# Altium schematic symbol library Isolator.SchLib: 324 symbols (part 2 of 4)
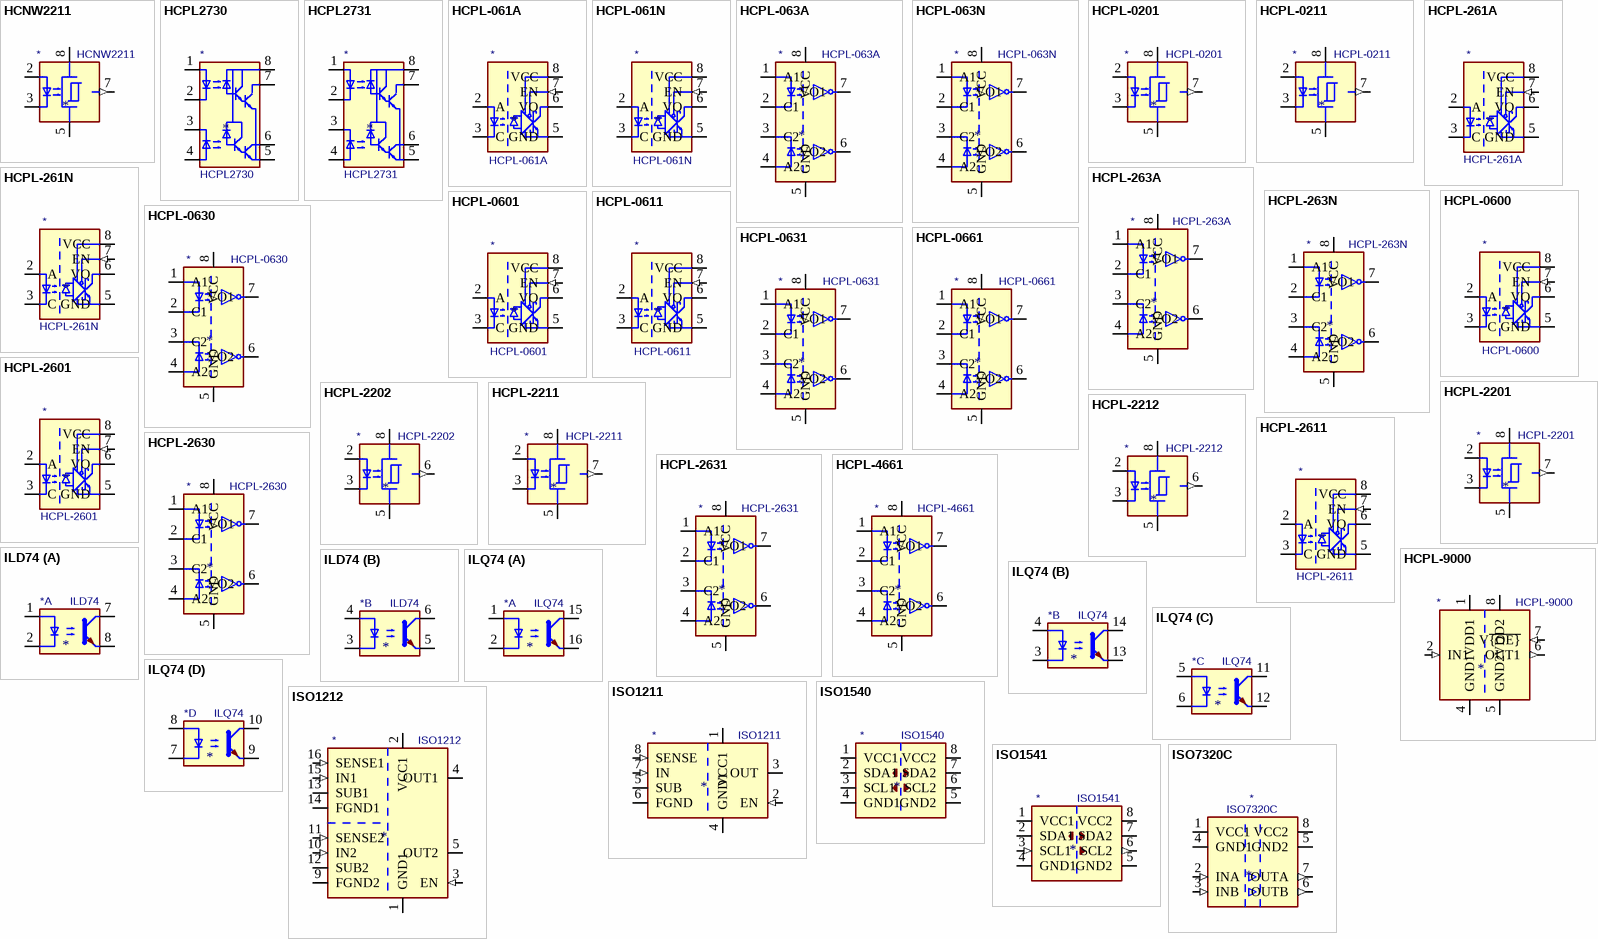
[diagram p10: symbols HCNW2211 to ISO7320C]

## HCPL-0631
designator *  value HCPL-0631
ki_keywords: High speed optically coupled gates; ki_description: Dual High Speed LSTTL/TTL Compatible Optocoupler, dV/dt 10000/us, VCM 1000, max 7V VCC, SOIC-8; ki_fp_filters: SOIC*3.9x4.9mm?P1.27mm*; Footprint: Package_SO:SOIC-8_3.9x4.9mm_P1.27mm; Supplier: https://docs.broadcom.com/docs/AV02-0940EN
footprint SOIC-8_3.9x4.9mm_P1.27mm
pins: 1 A1, 2 C1, 3 C2, 4 A2, 5 GND (power), 6 VO2 (oc), 7 VO1 (oc), 8 VCC (power)

## HCPL-0661
designator *  value HCPL-0661
ki_keywords: High speed optically coupled gates; ki_description: Dual High Speed LSTTL/TTL Compatible Optocoupler, dV/dt 15000/us, VCM 1000, max 7V VCC, SOIC-8; ki_fp_filters: SOIC*3.9x4.9mm?P1.27mm*; Footprint: Package_SO:SOIC-8_3.9x4.9mm_P1.27mm; Supplier: https://docs.broadcom.com/docs/AV02-0940EN
footprint SOIC-8_3.9x4.9mm_P1.27mm
pins: 1 A1, 2 C1, 3 C2, 4 A2, 5 GND (power), 6 VO2 (oc), 7 VO1 (oc), 8 VCC (power)

## HCPL-2201
designator *  value HCPL-2201
ki_keywords: opto coupler schmitt output; ki_description: Opto Coupler, 1kV/us, 50V CMR, Schmitt trigger output, DIP-8; ki_fp_filters: DIP*W7.62mm*; Footprint: Package_DIP:DIP-8_W7.62mm; Supplier: https://docs.broadcom.com/docs/AV02-0674EN
footprint DIP-8_W7.62mm
pins: 1 (in) hidden, 2, 3, 4 (in) hidden, 5 (power), 6 (in) hidden, 7 (out), 8 (power)

## HCPL-2202
designator *  value HCPL-2202
ki_keywords: opto coupler schmitt output; ki_description: Opto Coupler, 1kV/us, 50V CMR, Schmitt trigger output, DIP-8; ki_fp_filters: DIP*W7.62mm*; Footprint: Package_DIP:DIP-8_W7.62mm; Supplier: https://docs.broadcom.com/docs/AV02-0674EN
footprint DIP-8_W7.62mm
pins: 1 (in) hidden, 2, 3, 4 (in) hidden, 5 (power), 6 (out), 7 (in) hidden, 8 (power)

## HCPL-2211
designator *  value HCPL-2211
ki_keywords: opto coupler schmitt output; ki_description: Opto Coupler, 5kV/us, 300V CMR, Schmitt trigger output, DIP-8; ki_fp_filters: DIP*W7.62mm*; Footprint: Package_DIP:DIP-8_W7.62mm; Supplier: https://docs.broadcom.com/docs/AV02-0674EN
footprint DIP-8_W7.62mm
pins: 1 (in) hidden, 2, 3, 4 (in) hidden, 5 (power), 6 (in) hidden, 7 (out), 8 (power)

## HCPL-2212
designator *  value HCPL-2212
ki_keywords: opto coupler schmitt output; ki_description: Opto Coupler, 5kV/us, 300V CMR, Schmitt trigger output, DIP-8; ki_fp_filters: DIP*W7.62mm*; Footprint: Package_DIP:DIP-8_W7.62mm; Supplier: https://docs.broadcom.com/docs/AV02-0674EN
footprint DIP-8_W7.62mm
pins: 1 (in) hidden, 2, 3, 4 (in) hidden, 5 (power), 6 (out), 7 (in) hidden, 8 (power)

## HCPL-2601
designator *  value HCPL-2601
ki_keywords: High speed optically coupled gates enable; ki_description: Single High Speed LSTTL/TTL Compatible Optocoupler with enable, dV/dt 10000/us, VCM 1000, max 7V VCC, DIP-8; ki_fp_filters: DIP*W7.62mm*; Footprint: Package_DIP:DIP-8_W7.62mm; Supplier: https://docs.broadcom.com/docs/AV02-0940EN
footprint DIP-8_W7.62mm
pins: 1 NC (in) hidden, 2 A, 3 C, 5 GND (power), 6 VO (oc), 7 EN (in), 8 VCC (power)

## HCPL-2611
designator *  value HCPL-2611
ki_keywords: High speed optically coupled gates enable; ki_description: Single High Speed LSTTL/TTL Compatible Optocoupler with enable, dV/dt 15000/us, VCM 1000, max 7V VCC, DIP-8; ki_fp_filters: DIP*W7.62mm*; Footprint: Package_DIP:DIP-8_W7.62mm; Supplier: https://docs.broadcom.com/docs/AV02-0940EN
footprint DIP-8_W7.62mm
pins: 1 NC (in) hidden, 2 A, 3 C, 5 GND (power), 6 VO (oc), 7 EN (in), 8 VCC (power)

## HCPL-2630
designator *  value HCPL-2630
ki_keywords: High speed optically coupled gates; ki_description: Dual High Speed LSTTL/TTL Compatible Optocoupler, dV/dt 5000/us, VCM 1000, max 7V VCC, DIP-8; ki_fp_filters: DIP*W7.62mm*; Footprint: Package_DIP:DIP-8_W7.62mm; Supplier: https://docs.broadcom.com/docs/AV02-0940EN
footprint DIP-8_W7.62mm
pins: 1 A1, 2 C1, 3 C2, 4 A2, 5 GND (power), 6 VO2 (oc), 7 VO1 (oc), 8 VCC (power)

## HCPL-2631
designator *  value HCPL-2631
ki_keywords: High speed optically coupled gates; ki_description: Dual High Speed LSTTL/TTL Compatible Optocoupler, dV/dt 10000/us, VCM 1000, max 7V VCC, DIP-8; ki_fp_filters: DIP*W7.62mm*; Footprint: Package_DIP:DIP-8_W7.62mm; Supplier: https://docs.broadcom.com/docs/AV02-0940EN
footprint DIP-8_W7.62mm
pins: 1 A1, 2 C1, 3 C2, 4 A2, 5 GND (power), 6 VO2 (oc), 7 VO1 (oc), 8 VCC (power)

## HCPL-4661
designator *  value HCPL-4661
ki_keywords: High speed optically coupled gates; ki_description: Dual High Speed LSTTL/TTL Compatible Optocoupler, dV/dt 15000/us, VCM 1000, max 7V VCC, DIP-8; ki_fp_filters: DIP*W7.62mm*; Footprint: Package_DIP:DIP-8_W7.62mm; Supplier: https://docs.broadcom.com/docs/AV02-0940EN
footprint DIP-8_W7.62mm
pins: 1 A1, 2 C1, 3 C2, 4 A2, 5 GND (power), 6 VO2 (oc), 7 VO1 (oc), 8 VCC (power)

## HCPL-9000
designator *  value HCPL-9000
ki_keywords: digital isolator, high speed; ki_description: High Speed Digital Isolator, CMOS, excellent transient immunity, active-low logic output enable, DIP-8; ki_fp_filters: DIP*W7.62mm*; Footprint: Package_DIP:DIP-8_W7.62mm; Supplier: https://docs.broadcom.com/docs/AV02-0137EN
footprint DIP-8_W7.62mm
pins: 1 VDD1 (power), 2 IN1 (in), 3 NC (in) hidden, 4 GND1 (power), 5 GND2 (power), 6 OUT1 (out), 7 V~{{OE}} (in), 8 VDD2 (power)

## ILD74
designator *  value ILD74
ki_keywords: NPN DC Dual Optocoupler; ki_description: Dual Optocoupler, NPN Phototransistor Output, TTL compatible, DIP8/SMD8; ki_fp_filters: DIP*W7.62mm* DIP*W10.16mm* SMDIP*W9.53mm*Clearance8mm*; Supplier: https://www.vishay.com/docs/83640/ild74.pdf
part A pins: 1, 2, 7, 8
part B pins: 3, 4, 5, 6

## ILQ74
designator *  value ILQ74
ki_keywords: NPN DC Dual Optocoupler; ki_description: Quad Optocoupler, NPN Phototransistor Output, TTL compatible, DIP16/SMD16; ki_fp_filters: DIP*W7.62mm* DIP*W10.16mm* SMDIP*W9.53mm*Clearance8mm*; Supplier: https://www.vishay.com/docs/83640/ild74.pdf
part A pins: 1, 2, 15, 16
part B pins: 3, 4, 13, 14
part C pins: 5, 6, 11, 12
part D pins: 7, 8, 9, 10

## ISO1211
designator *  value ISO1211
ki_keywords: isolated digital input; ki_description: Isolated, 1 Channel, 24 to 60V Digital Input Receiver, SOIC-8; ki_fp_filters: SOIC*3.9x4.9mm*P1.27mm*; Footprint: Package_SO:SOIC-8_3.9x4.9mm_P1.27mm; Supplier: http://www.ti.com/lit/ds/symlink/iso1211.pdf
footprint SOIC-8_3.9x4.9mm_P1.27mm
pins: 1 VCC1 (power), 2 EN (in), 3 OUT (hiz), 4 GND1 (power), 5 SUB, 6 FGND (power), 7 IN (in), 8 SENSE (in)

## ISO1212
designator *  value ISO1212
ki_keywords: isolated digital input; ki_description: Isolated, 2 Channels, 24 to 60V Digital Inputs Receiver, SSOP-16; ki_fp_filters: SSOP*3.9x4.9mm*P0.635mm*; Footprint: Package_SO:SSOP-16_3.9x4.9mm_P0.635mm; Supplier: http://www.ti.com/lit/ds/symlink/iso1212.pdf
footprint SSOP-16_3.9x4.9mm_P0.635mm
pins: 1 GND1 (power), 2 VCC1 (power), 3 EN (in), 4 OUT1 (hiz), 5 OUT2 (hiz), 6 NC (in) hidden, 7 NC (in) hidden, 8 GND1 hidden, 9 FGND2 (power), 10 IN2 (in), 11 SENSE2 (in), 12 SUB2, 13 SUB1, 14 FGND1 (power), 15 IN1 (in), 16 SENSE1 (in)

## ISO1540
designator *  value ISO1540
ki_keywords: digital isolator i2c; ki_description: I2C Isolator, 2.5 kVrms, Bidirectional clock and data, SOIC-8; ki_fp_filters: SOIC*3.9x4.9mm*P1.27mm*; Footprint: Package_SO:SOIC-8_3.9x4.9mm_P1.27mm; Supplier: http://www.ti.com/lit/ds/symlink/iso1541.pdf
footprint SOIC-8_3.9x4.9mm_P1.27mm
pins: 1 VCC1 (power), 2 SDA1 (io), 3 SCL1 (io), 4 GND1 (power), 5 GND2 (power), 6 SCL2 (io), 7 SDA2 (io), 8 VCC2 (power)

## ISO1541
designator *  value ISO1541
ki_keywords: digital isolator i2c; ki_description: I2C Isolator, 2.5 kVrms, Unidirectional Clock, Bidirectional data, SOIC-8; ki_fp_filters: SOIC*3.9x4.9mm*P1.27mm*; Footprint: Package_SO:SOIC-8_3.9x4.9mm_P1.27mm; Supplier: http://www.ti.com/lit/ds/symlink/iso1541.pdf
footprint SOIC-8_3.9x4.9mm_P1.27mm
pins: 1 VCC1 (power), 2 SDA1 (io), 3 SCL1 (in), 4 GND1 (power), 5 GND2 (power), 6 SCL2 (out), 7 SDA2 (io), 8 VCC2 (power)

## ISO7320C
designator *  value ISO7320C
ki_keywords: 2Ch Dual Digital Isolator 25Mbps; ki_description: Low Power Dual-Channel 2/0 Digital Isolator, 25Mbps 33ns, Fail-Safe High, SO8; ki_fp_filters: SO*; Footprint: Package_SO:SOIC-8_3.9x4.9mm_P1.27mm; Supplier: http://www.ti.com/general/docs/lit/getliterature.tsp?genericPartNumber=iso7320c&fileType=pdf
footprint SOIC-8_3.9x4.9mm_P1.27mm
pins: 1 VCC1 (power), 2 INA (in), 3 INB (in), 4 GND1 (power), 5 GND2 (power), 6 OUTB (out), 7 OUTA (out), 8 VCC2 (power)

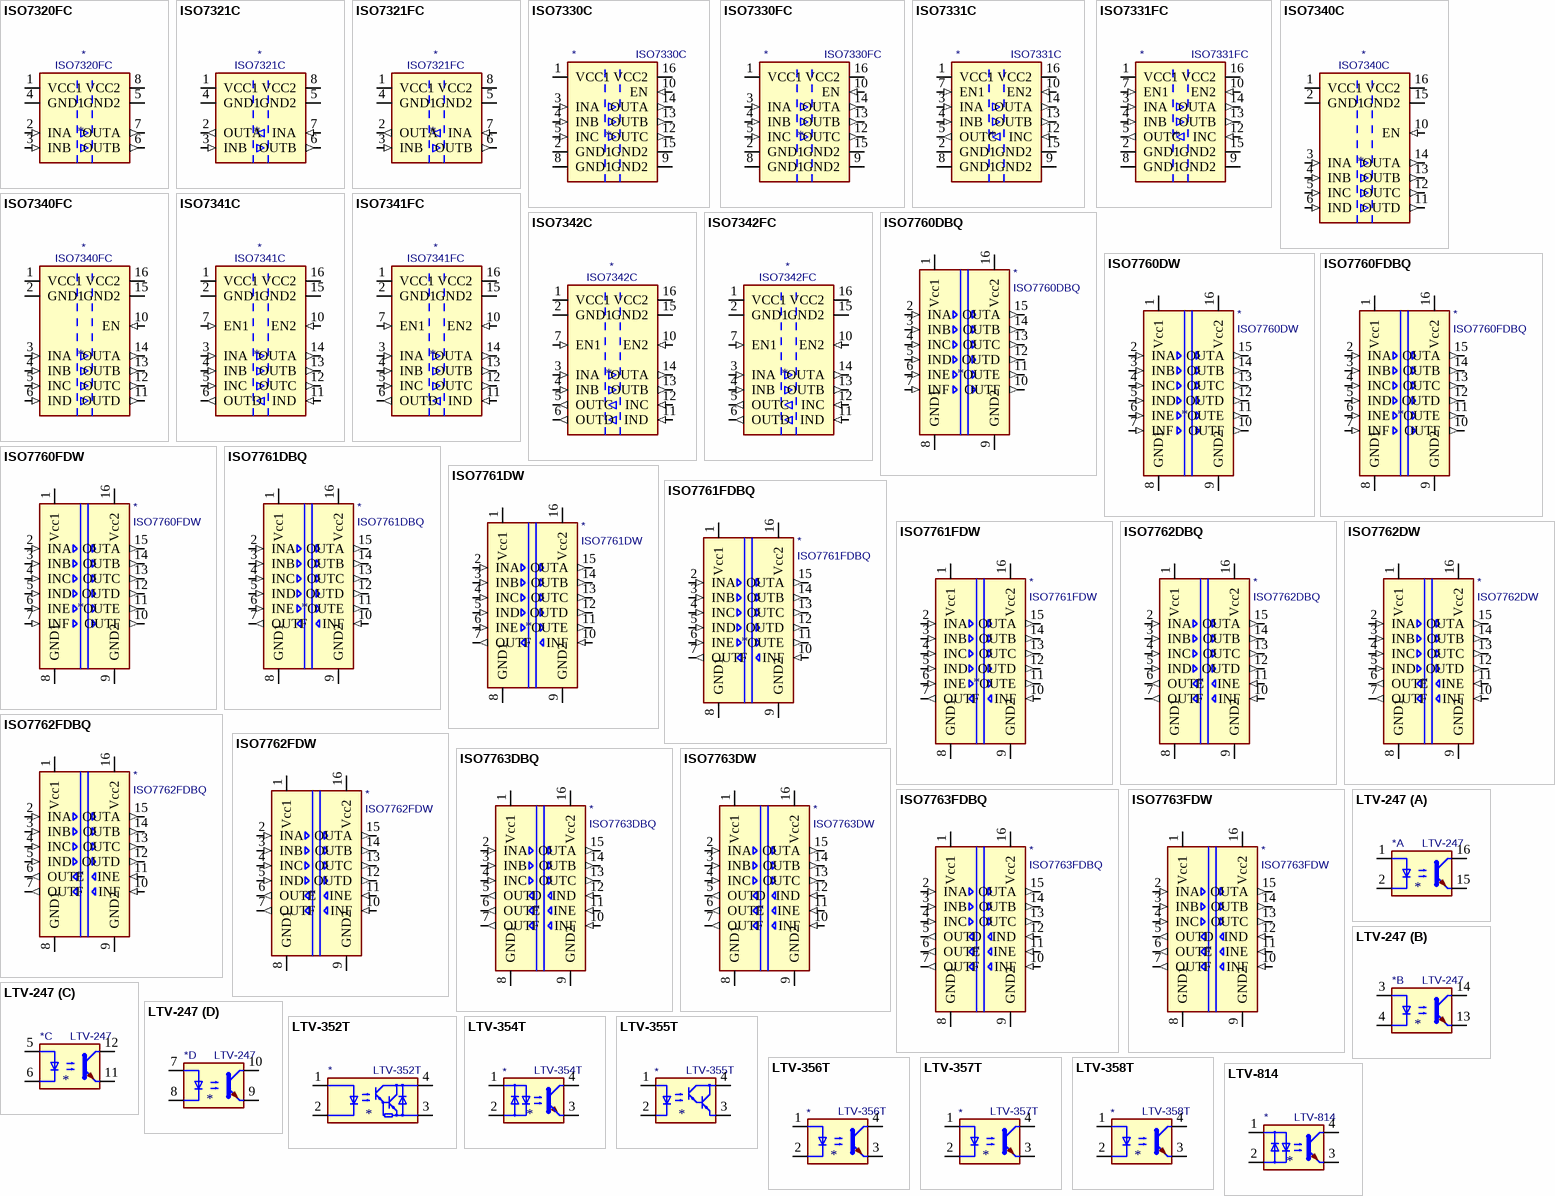
[diagram p3: symbols ISO7320FC to LTV-814]

## ISO7320FC
designator *  value ISO7320FC
ki_keywords: 2Ch Dual Digital Isolator 25Mbps; ki_description: Low Power Dual-Channel 2/0 Digital Isolator, 25Mbps 33ns, Fail-Safe Low, SO8; ki_fp_filters: SO*; Footprint: Package_SO:SOIC-8_3.9x4.9mm_P1.27mm; Supplier: http://www.ti.com/general/docs/lit/getliterature.tsp?genericPartNumber=iso7320fc&fileType=pdf
footprint SOIC-8_3.9x4.9mm_P1.27mm
pins: 1 VCC1 (power), 2 INA (in), 3 INB (in), 4 GND1 (power), 5 GND2 (power), 6 OUTB (out), 7 OUTA (out), 8 VCC2 (power)

## ISO7321C
designator *  value ISO7321C
ki_keywords: 2Ch Dual Digital Isolator 25Mbps; ki_description: Low Power Dual-Channel 1/1 Digital Isolator, 25Mbps 33ns, Fail-Safe High, SO8; ki_fp_filters: SO*; Footprint: Package_SO:SOIC-8_3.9x4.9mm_P1.27mm; Supplier: http://www.ti.com/general/docs/lit/getliterature.tsp?genericPartNumber=iso7321c&fileType=pdf
footprint SOIC-8_3.9x4.9mm_P1.27mm
pins: 1 VCC1 (power), 2 OUTA (out), 3 INB (in), 4 GND1 (power), 5 GND2 (power), 6 OUTB (out), 7 INA (in), 8 VCC2 (power)

## ISO7321FC
designator *  value ISO7321FC
ki_keywords: 2Ch Dual Digital Isolator 25Mbps; ki_description: Low Power Dual-Channel 1/1 Digital Isolator, 25Mbps 33ns, Fail-Safe Low, SO8; ki_fp_filters: SO*; Footprint: Package_SO:SOIC-8_3.9x4.9mm_P1.27mm; Supplier: http://www.ti.com/general/docs/lit/getliterature.tsp?genericPartNumber=iso7321fc&fileType=pdf
footprint SOIC-8_3.9x4.9mm_P1.27mm
pins: 1 VCC1 (power), 2 OUTA (out), 3 INB (in), 4 GND1 (power), 5 GND2 (power), 6 OUTB (out), 7 INA (in), 8 VCC2 (power)

## ISO7330C
designator *  value ISO7330C
ki_keywords: 3Ch Quad Digital Isolator 25Mbps; ki_description: Low Power Quad-Channel 3/0 Digital Isolator, 25Mbps 31ns, Fail-Safe High, SO16; ki_fp_filters: SOIC*7.5x10.3mm*P1.27mm*; Footprint: Package_SO:SOIC-16W_7.5x10.3mm_P1.27mm; Supplier: http://www.ti.com/lit/ds/symlink/iso7330-q1.pdf
footprint SOIC-16W_7.5x10.3mm_P1.27mm
pins: 1 VCC1 (power), 2 GND1 (power), 3 INA (in), 4 INB (in), 5 INC (in), 6 NC (in) hidden, 7 NC (in) hidden, 8 GND1 (power), 9 GND2 (power), 10 EN (in), 11 NC (in) hidden, 12 OUTC (out), 13 OUTB (out), 14 OUTA (out), 15 GND2 (power), 16 VCC2 (power)

## ISO7330FC
designator *  value ISO7330FC
ki_keywords: 3Ch Quad Digital Isolator 25Mbps; ki_description: Low Power Quad-Channel 3/0 Digital Isolator, 25Mbps 31ns, Fail-Safe Low, SO16; ki_fp_filters: SOIC*7.5x10.3mm*P1.27mm*; Footprint: Package_SO:SOIC-16W_7.5x10.3mm_P1.27mm; Supplier: http://www.ti.com/lit/ds/symlink/iso7330-q1.pdf
footprint SOIC-16W_7.5x10.3mm_P1.27mm
pins: 1 VCC1 (power), 2 GND1 (power), 3 INA (in), 4 INB (in), 5 INC (in), 6 NC (in) hidden, 7 NC (in) hidden, 8 GND1 (power), 9 GND2 (power), 10 EN (in), 11 NC (in) hidden, 12 OUTC (out), 13 OUTB (out), 14 OUTA (out), 15 GND2 (power), 16 VCC2 (power)

## ISO7331C
designator *  value ISO7331C
ki_keywords: 3Ch Quad Digital Isolator 25Mbps; ki_description: Low Power Quad-Channel 2/1 Digital Isolator, 25Mbps 31ns, Fail-Safe High, SO16; ki_fp_filters: SOIC*7.5x10.3mm*P1.27mm*; Footprint: Package_SO:SOIC-16W_7.5x10.3mm_P1.27mm; Supplier: http://www.ti.com/lit/ds/symlink/iso7331c.pdf
footprint SOIC-16W_7.5x10.3mm_P1.27mm
pins: 1 VCC1 (power), 2 GND1 (power), 3 INA (in), 4 INB (in), 5 OUTC (out), 6 NC (in) hidden, 7 EN1 (in), 8 GND1 (power), 9 GND2 (power), 10 EN2 (in), 11 NC (in) hidden, 12 INC (in), 13 OUTB (out), 14 OUTA (out), 15 GND2 (power), 16 VCC2 (power)

## ISO7331FC
designator *  value ISO7331FC
ki_keywords: 3Ch Quad Digital Isolator 25Mbps; ki_description: Low Power Quad-Channel 2/1 Digital Isolator, 25Mbps 31ns, Fail-Safe Low, SO16; ki_fp_filters: SOIC*7.5x10.3mm*P1.27mm*; Footprint: Package_SO:SOIC-16W_7.5x10.3mm_P1.27mm; Supplier: http://www.ti.com/general/docs/lit/getliterature.tsp?genericPartNumber=iso7341c&fileType=pdf
footprint SOIC-16W_7.5x10.3mm_P1.27mm
pins: 1 VCC1 (power), 2 GND1 (power), 3 INA (in), 4 INB (in), 5 OUTC (out), 6 NC (in) hidden, 7 EN1 (in), 8 GND1 (power), 9 GND2 (power), 10 EN2 (in), 11 NC (in) hidden, 12 INC (in), 13 OUTB (out), 14 OUTA (out), 15 GND2 (power), 16 VCC2 (power)

## ISO7340C
designator *  value ISO7340C
ki_keywords: 4Ch Quad Digital Isolator 25Mbps; ki_description: Low Power Quad-Channel 4/0 Digital Isolator, 25Mbps 31ns, Fail-Safe High, SO16; ki_fp_filters: SO*; Footprint: Package_SO:SOIC-16W_7.5x10.3mm_P1.27mm; Supplier: http://www.ti.com/general/docs/lit/getliterature.tsp?genericPartNumber=iso7340c&fileType=pdf
footprint SOIC-16W_7.5x10.3mm_P1.27mm
pins: 1 VCC1 (power), 2 GND1 (power), 3 INA (in), 4 INB (in), 5 INC (in), 6 IND (in), 8 GND1 hidden, 9 GND2 hidden, 10 EN (in), 11 OUTD (out), 12 OUTC (out), 13 OUTB (out), 14 OUTA (out), 15 GND2 (power), 16 VCC2 (power)

## ISO7340FC
designator *  value ISO7340FC
ki_keywords: 4Ch Quad Digital Isolator 25Mbps; ki_description: Low Power Quad-Channel 4/0 Digital Isolator, 25Mbps 31ns, Fail-Safe Low, SO16; ki_fp_filters: SO*; Footprint: Package_SO:SOIC-16W_7.5x10.3mm_P1.27mm; Supplier: http://www.ti.com/general/docs/lit/getliterature.tsp?genericPartNumber=iso7340fc&fileType=pdf
footprint SOIC-16W_7.5x10.3mm_P1.27mm
pins: 1 VCC1 (power), 2 GND1 (power), 3 INA (in), 4 INB (in), 5 INC (in), 6 IND (in), 8 GND1 hidden, 9 GND2 hidden, 10 EN (in), 11 OUTD (out), 12 OUTC (out), 13 OUTB (out), 14 OUTA (out), 15 GND2 (power), 16 VCC2 (power)

## ISO7341C
designator *  value ISO7341C
ki_keywords: 4Ch Quad Digital Isolator 25Mbps; ki_description: Low Power Quad-Channel 3/1 Digital Isolator, 25Mbps 31ns, Fail-Safe High, SO16; ki_fp_filters: SO*; Footprint: Package_SO:SOIC-16W_7.5x10.3mm_P1.27mm; Supplier: http://www.ti.com/general/docs/lit/getliterature.tsp?genericPartNumber=iso7341c&fileType=pdf
footprint SOIC-16W_7.5x10.3mm_P1.27mm
pins: 1 VCC1 (power), 2 GND1 (power), 3 INA (in), 4 INB (in), 5 INC (in), 6 OUTD (out), 7 EN1 (in), 8 GND1 hidden, 9 GND2 hidden, 10 EN2 (in), 11 IND (in), 12 OUTC (out), 13 OUTB (out), 14 OUTA (out), 15 GND2 (power), 16 VCC2 (power)

## ISO7341FC
designator *  value ISO7341FC
ki_keywords: 4Ch Quad Digital Isolator 25Mbps; ki_description: Low Power Quad-Channel 3/1 Digital Isolator, 25Mbps 31ns, Fail-Safe Low, SO16; ki_fp_filters: SO*; Footprint: Package_SO:SOIC-16W_7.5x10.3mm_P1.27mm; Supplier: http://www.ti.com/general/docs/lit/getliterature.tsp?genericPartNumber=iso7341fc&fileType=pdf
footprint SOIC-16W_7.5x10.3mm_P1.27mm
pins: 1 VCC1 (power), 2 GND1 (power), 3 INA (in), 4 INB (in), 5 INC (in), 6 OUTD (out), 7 EN1 (in), 8 GND1 hidden, 9 GND2 hidden, 10 EN2 (in), 11 IND (in), 12 OUTC (out), 13 OUTB (out), 14 OUTA (out), 15 GND2 (power), 16 VCC2 (power)

## ISO7342C
designator *  value ISO7342C
ki_keywords: 4Ch Quad Digital Isolator 25Mbps; ki_description: Low Power Quad-Channel 2/2 Digital Isolator, 25Mbps 31ns, Fail-Safe High, SO16; ki_fp_filters: SO*; Footprint: Package_SO:SOIC-16W_7.5x10.3mm_P1.27mm; Supplier: http://www.ti.com/general/docs/lit/getliterature.tsp?genericPartNumber=iso7342c&fileType=pdf
footprint SOIC-16W_7.5x10.3mm_P1.27mm
pins: 1 VCC1 (power), 2 GND1 (power), 3 INA (in), 4 INB (in), 5 OUTC (out), 6 OUTD (out), 7 EN1 (in), 8 GND1 hidden, 9 GND2 hidden, 10 EN2 (in), 11 IND (in), 12 INC (in), 13 OUTB (out), 14 OUTA (out), 15 GND2 (power), 16 VCC2 (power)

## ISO7342FC
designator *  value ISO7342FC
ki_keywords: 4Ch Quad Digital Isolator 25Mbps; ki_description: Low Power Quad-Channel 2/2 Digital Isolator, 25Mbps 31ns, Fail-Safe Low, SO16; ki_fp_filters: SO*; Footprint: Package_SO:SOIC-16W_7.5x10.3mm_P1.27mm; Supplier: http://www.ti.com/general/docs/lit/getliterature.tsp?genericPartNumber=iso7342fc&fileType=pdf
footprint SOIC-16W_7.5x10.3mm_P1.27mm
pins: 1 VCC1 (power), 2 GND1 (power), 3 INA (in), 4 INB (in), 5 OUTC (out), 6 OUTD (out), 7 EN1 (in), 8 GND1 hidden, 9 GND2 hidden, 10 EN2 (in), 11 IND (in), 12 INC (in), 13 OUTB (out), 14 OUTA (out), 15 GND2 (power), 16 VCC2 (power)

## ISO7760DBQ
designator *  value ISO7760DBQ
ki_keywords: 6 channel digital isolator; ki_description: Default high, High-speed, robust EMC, reinforced, six-channel, digital, isolator, SSOP-16; ki_fp_filters: SSOP*3.9x4.9mm*P0.635mm*; Footprint: Package_SO:SSOP-16_3.9x4.9mm_P0.635mm; Supplier: https://www.ti.com/lit/ds/symlink/iso7763.pdf
footprint SSOP-16_3.9x4.9mm_P0.635mm
pins: 1 Vcc1 (power), 2 INA (in), 3 INB (in), 4 INC (in), 5 IND (in), 6 INE (in), 7 INF (in), 8 GND1 (power), 9 GND2 (power), 10 OUTF (out), 11 OUTE (out), 12 OUTD (out), 13 OUTC (out), 14 OUTB (out), 15 OUTA (out), 16 Vcc2 (power)

## ISO7760DW
designator *  value ISO7760DW
ki_keywords: 6 channel digital isolator; ki_description: Default high, High-speed, robust EMC, reinforced, six-channel, digital, isolator, SOIC-16; ki_fp_filters: SOIC*7.5x10.3mm*P1.27mm*; Footprint: Package_SO:SOIC-16W_7.5x10.3mm_P1.27mm; Supplier: https://www.ti.com/lit/ds/symlink/iso7763.pdf
footprint SOIC-16W_7.5x10.3mm_P1.27mm
pins: 1 Vcc1 (power), 2 INA (in), 3 INB (in), 4 INC (in), 5 IND (in), 6 INE (in), 7 INF (in), 8 GND1 (power), 9 GND2 (power), 10 OUTF (out), 11 OUTE (out), 12 OUTD (out), 13 OUTC (out), 14 OUTB (out), 15 OUTA (out), 16 Vcc2 (power)

## ISO7760FDBQ
designator *  value ISO7760FDBQ
ki_keywords: 6 channel digital isolator; ki_description: Default low, High-speed, robust EMC, reinforced, six-channel, digital, isolator, SSOP-16; ki_fp_filters: SSOP*3.9x4.9mm*P0.635mm*; Footprint: Package_SO:SSOP-16_3.9x4.9mm_P0.635mm; Supplier: https://www.ti.com/lit/ds/symlink/iso7763.pdf?ts=1596905577895
footprint SSOP-16_3.9x4.9mm_P0.635mm
pins: 1 Vcc1 (power), 2 INA (in), 3 INB (in), 4 INC (in), 5 IND (in), 6 INE (in), 7 INF (in), 8 GND1 (power), 9 GND2 (power), 10 OUTF (out), 11 OUTE (out), 12 OUTD (out), 13 OUTC (out), 14 OUTB (out), 15 OUTA (out), 16 Vcc2 (power)

## ISO7760FDW
designator *  value ISO7760FDW
ki_keywords: 6 channel digital isolator; ki_description: Default low, High-speed, robust EMC, reinforced, six-channel, digital, isolator, SOIC-16; ki_fp_filters: SOIC*7.5x10.3mm*P1.27mm*; Footprint: Package_SO:SOIC-16W_7.5x10.3mm_P1.27mm; Supplier: https://www.ti.com/lit/ds/symlink/iso7763.pdf?ts=1596905577895
footprint SOIC-16W_7.5x10.3mm_P1.27mm
pins: 1 Vcc1 (power), 2 INA (in), 3 INB (in), 4 INC (in), 5 IND (in), 6 INE (in), 7 INF (in), 8 GND1 (power), 9 GND2 (power), 10 OUTF (out), 11 OUTE (out), 12 OUTD (out), 13 OUTC (out), 14 OUTB (out), 15 OUTA (out), 16 Vcc2 (power)

## ISO7761DBQ
designator *  value ISO7761DBQ
ki_keywords: 6 channel digital isolator; ki_description: Default high, High-speed, robust EMC, reinforced, six-channel, digital, isolator, SSOP-16; ki_fp_filters: SSOP*3.9x4.9mm*P0.635mm*; Footprint: Package_SO:SSOP-16_3.9x4.9mm_P0.635mm; Supplier: https://www.ti.com/lit/ds/symlink/iso7763.pdf
footprint SSOP-16_3.9x4.9mm_P0.635mm
pins: 1 Vcc1 (power), 2 INA (in), 3 INB (in), 4 INC (in), 5 IND (in), 6 INE (in), 7 OUTF (out), 8 GND1 (power), 9 GND2 (power), 10 INF (in), 11 OUTE (out), 12 OUTD (out), 13 OUTC (out), 14 OUTB (out), 15 OUTA (out), 16 Vcc2 (power)

## ISO7761DW
designator *  value ISO7761DW
ki_keywords: 6 channel digital isolator; ki_description: Default high, High-speed, robust EMC, reinforced, six-channel, digital, isolator, SOIC-16; ki_fp_filters: SOIC*7.5x10.3mm*P1.27mm*; Footprint: Package_SO:SOIC-16W_7.5x10.3mm_P1.27mm; Supplier: https://www.ti.com/lit/ds/symlink/iso7763.pdf
footprint SOIC-16W_7.5x10.3mm_P1.27mm
pins: 1 Vcc1 (power), 2 INA (in), 3 INB (in), 4 INC (in), 5 IND (in), 6 INE (in), 7 OUTF (out), 8 GND1 (power), 9 GND2 (power), 10 INF (in), 11 OUTE (out), 12 OUTD (out), 13 OUTC (out), 14 OUTB (out), 15 OUTA (out), 16 Vcc2 (power)

## ISO7761FDBQ
designator *  value ISO7761FDBQ
ki_keywords: 6 channel digital isolator; ki_description: Default low, High-speed, robust EMC, reinforced, six-channel, digital, isolator, SSOP-16; ki_fp_filters: SSOP*3.9x4.9mm*P0.635mm*; Footprint: Package_SO:SSOP-16_3.9x4.9mm_P0.635mm; Supplier: https://www.ti.com/lit/ds/symlink/iso7763.pdf?ts=1596905577895
footprint SSOP-16_3.9x4.9mm_P0.635mm
pins: 1 Vcc1 (power), 2 INA (in), 3 INB (in), 4 INC (in), 5 IND (in), 6 INE (in), 7 OUTF (out), 8 GND1 (power), 9 GND2 (power), 10 INF (in), 11 OUTE (out), 12 OUTD (out), 13 OUTC (out), 14 OUTB (out), 15 OUTA (out), 16 Vcc2 (power)

## ISO7761FDW
designator *  value ISO7761FDW
ki_keywords: 6 channel digital isolator; ki_description: Default low, High-speed, robust EMC, reinforced, six-channel, digital, isolator, SOIC-16; ki_fp_filters: SOIC*7.5x10.3mm*P1.27mm*; Footprint: Package_SO:SOIC-16W_7.5x10.3mm_P1.27mm; Supplier: https://www.ti.com/lit/ds/symlink/iso7763.pdf?ts=1596905577895
footprint SOIC-16W_7.5x10.3mm_P1.27mm
pins: 1 Vcc1 (power), 2 INA (in), 3 INB (in), 4 INC (in), 5 IND (in), 6 INE (in), 7 OUTF (out), 8 GND1 (power), 9 GND2 (power), 10 INF (in), 11 OUTE (out), 12 OUTD (out), 13 OUTC (out), 14 OUTB (out), 15 OUTA (out), 16 Vcc2 (power)

## ISO7762DBQ
designator *  value ISO7762DBQ
ki_keywords: 6 channel digital isolator; ki_description: Default high, High-speed, robust EMC, reinforced, six-channel, digital, isolator, SSOP-16; ki_fp_filters: SSOP*3.9x4.9mm*P0.635mm*; Footprint: Package_SO:SSOP-16_3.9x4.9mm_P0.635mm; Supplier: https://www.ti.com/lit/ds/symlink/iso7763.pdf
footprint SSOP-16_3.9x4.9mm_P0.635mm
pins: 1 Vcc1 (power), 2 INA (in), 3 INB (in), 4 INC (in), 5 IND (in), 6 OUTE (out), 7 OUTF (out), 8 GND1 (power), 9 GND2 (power), 10 INF (in), 11 INE (in), 12 OUTD (out), 13 OUTC (out), 14 OUTB (out), 15 OUTA (out), 16 Vcc2 (power)

## ISO7762DW
designator *  value ISO7762DW
ki_keywords: 6 channel digital isolator; ki_description: Default high, High-speed, robust EMC, reinforced, six-channel, digital, isolator, SOIC-16; ki_fp_filters: SOIC*7.5x10.3mm*P1.27mm*; Footprint: Package_SO:SOIC-16W_7.5x10.3mm_P1.27mm; Supplier: https://www.ti.com/lit/ds/symlink/iso7763.pdf
footprint SOIC-16W_7.5x10.3mm_P1.27mm
pins: 1 Vcc1 (power), 2 INA (in), 3 INB (in), 4 INC (in), 5 IND (in), 6 OUTE (out), 7 OUTF (out), 8 GND1 (power), 9 GND2 (power), 10 INF (in), 11 INE (in), 12 OUTD (out), 13 OUTC (out), 14 OUTB (out), 15 OUTA (out), 16 Vcc2 (power)

## ISO7762FDBQ
designator *  value ISO7762FDBQ
ki_keywords: 6 channel digital isolator; ki_description: Default low, High-speed, robust EMC, reinforced, six-channel, digital, isolator, SSOP-16; ki_fp_filters: SSOP*3.9x4.9mm*P0.635mm*; Footprint: Package_SO:SSOP-16_3.9x4.9mm_P0.635mm; Supplier: https://www.ti.com/lit/ds/symlink/iso7763.pdf?ts=1596905577895
footprint SSOP-16_3.9x4.9mm_P0.635mm
pins: 1 Vcc1 (power), 2 INA (in), 3 INB (in), 4 INC (in), 5 IND (in), 6 OUTE (out), 7 OUTF (out), 8 GND1 (power), 9 GND2 (power), 10 INF (in), 11 INE (in), 12 OUTD (out), 13 OUTC (out), 14 OUTB (out), 15 OUTA (out), 16 Vcc2 (power)

## ISO7762FDW
designator *  value ISO7762FDW
ki_keywords: 6 channel digital isolator; ki_description: Default low, High-speed, robust EMC, reinforced, six-channel, digital, isolator, SOIC-16; ki_fp_filters: SOIC*7.5x10.3mm*P1.27mm*; Footprint: Package_SO:SOIC-16W_7.5x10.3mm_P1.27mm; Supplier: https://www.ti.com/lit/ds/symlink/iso7763.pdf?ts=1596905577895
footprint SOIC-16W_7.5x10.3mm_P1.27mm
pins: 1 Vcc1 (power), 2 INA (in), 3 INB (in), 4 INC (in), 5 IND (in), 6 OUTE (out), 7 OUTF (out), 8 GND1 (power), 9 GND2 (power), 10 INF (in), 11 INE (in), 12 OUTD (out), 13 OUTC (out), 14 OUTB (out), 15 OUTA (out), 16 Vcc2 (power)

## ISO7763DBQ
designator *  value ISO7763DBQ
ki_keywords: 6 channel digital isolator; ki_description: Default high, High-speed, robust EMC, reinforced, six-channel, digital, isolator, SSOP-16; ki_fp_filters: SSOP*3.9x4.9mm*P0.635mm*; Footprint: Package_SO:SSOP-16_3.9x4.9mm_P0.635mm; Supplier: https://www.ti.com/lit/ds/symlink/iso7763.pdf
footprint SSOP-16_3.9x4.9mm_P0.635mm
pins: 1 Vcc1 (power), 2 INA (in), 3 INB (in), 4 INC (in), 5 OUTD (out), 6 OUTE (out), 7 OUTF (out), 8 GND1 (power), 9 GND2 (power), 10 INF (in), 11 INE (in), 12 IND (in), 13 OUTC (out), 14 OUTB (out), 15 OUTA (out), 16 Vcc2 (power)

## ISO7763DW
designator *  value ISO7763DW
ki_keywords: 6 channel digital isolator; ki_description: Default high, High-speed, robust EMC, reinforced, six-channel, digital, isolator, SOIC-16; ki_fp_filters: SOIC*7.5x10.3mm*P1.27mm*; Footprint: Package_SO:SOIC-16W_7.5x10.3mm_P1.27mm; Supplier: https://www.ti.com/lit/ds/symlink/iso7763.pdf
footprint SOIC-16W_7.5x10.3mm_P1.27mm
pins: 1 Vcc1 (power), 2 INA (in), 3 INB (in), 4 INC (in), 5 OUTD (out), 6 OUTE (out), 7 OUTF (out), 8 GND1 (power), 9 GND2 (power), 10 INF (in), 11 INE (in), 12 IND (in), 13 OUTC (out), 14 OUTB (out), 15 OUTA (out), 16 Vcc2 (power)

## ISO7763FDBQ
designator *  value ISO7763FDBQ
ki_keywords: 6 channel digital isolator; ki_description: Default low, High-speed, robust EMC, reinforced, six-channel, digital, isolator, SSOP-16; ki_fp_filters: SSOP*3.9x4.9mm*P0.635mm*; Footprint: Package_SO:SSOP-16_3.9x4.9mm_P0.635mm; Supplier: https://www.ti.com/lit/ds/symlink/iso7763.pdf?ts=1596905577895
footprint SSOP-16_3.9x4.9mm_P0.635mm
pins: 1 Vcc1 (power), 2 INA (in), 3 INB (in), 4 INC (in), 5 OUTD (out), 6 OUTE (out), 7 OUTF (out), 8 GND1 (power), 9 GND2 (power), 10 INF (in), 11 INE (in), 12 IND (in), 13 OUTC (out), 14 OUTB (out), 15 OUTA (out), 16 Vcc2 (power)

## ISO7763FDW
designator *  value ISO7763FDW
ki_keywords: 6 channel digital isolator; ki_description: Default low, High-speed, robust EMC, reinforced, six-channel, digital, isolator, SOIC-16; ki_fp_filters: SOIC*7.5x10.3mm*P1.27mm*; Footprint: Package_SO:SOIC-16W_7.5x10.3mm_P1.27mm; Supplier: https://www.ti.com/lit/ds/symlink/iso7763.pdf?ts=1596905577895
footprint SOIC-16W_7.5x10.3mm_P1.27mm
pins: 1 Vcc1 (power), 2 INA (in), 3 INB (in), 4 INC (in), 5 OUTD (out), 6 OUTE (out), 7 OUTF (out), 8 GND1 (power), 9 GND2 (power), 10 INF (in), 11 INE (in), 12 IND (in), 13 OUTC (out), 14 OUTB (out), 15 OUTA (out), 16 Vcc2 (power)

## LTV-247
designator *  value LTV-247
ki_keywords: NPN DC Quad Optocoupler; ki_description: DC Quad Optocoupler, Vce 80V, CTR 100-600%, SOP-16; ki_fp_filters: SOP*4.4x10.4mm*P1.27mm*; Footprint: Package_SO:SOP-16_4.4x10.4mm_P1.27mm; Supplier: http://optoelectronics.liteon.com/upload/download/DS70-2009-0014/LTV-2X7%20sereis%20Mar17.PDF
footprint SOP-16_4.4x10.4mm_P1.27mm
part A pins: 1, 2, 15, 16
part B pins: 3, 4, 13, 14
part C pins: 5, 6, 11, 12
part D pins: 7, 8, 9, 10

## LTV-352T
designator *  value LTV-352T
ki_keywords: NPN Darlington DC Optocoupler; ki_description: DC Darlington Optocoupler, Vce 300V, CTR 1000%, SO-4; ki_fp_filters: SO*4.4x3.6mm*P2.54mm*; Footprint: Package_SO:SO-4_4.4x3.6mm_P2.54mm; Supplier: http://optoelectronics.liteon.com/upload/download/DS70-2001-002/S_110_LTV-352T%2020140520.pdf
footprint SO-4_4.4x3.6mm_P2.54mm
pins: 1, 2, 3, 4

## LTV-354T
designator *  value LTV-354T
ki_keywords: NPN AC DC Optocoupler; ki_description: AC/DC Optocoupler, Vce 35V, CTR 20%, SO-4; ki_fp_filters: SO*4.4x3.6mm*P2.54mm*; Footprint: Package_SO:SO-4_4.4x3.6mm_P2.54mm; Supplier: http://optoelectronics.liteon.com/upload/download/DS70-2001-004/S_110_LTV-354T%2020140520.pdf
footprint SO-4_4.4x3.6mm_P2.54mm
pins: 1, 2, 3, 4

## LTV-355T
designator *  value LTV-355T
ki_keywords: NPN Darlington DC Optocoupler; ki_description: DC Darlington Optocoupler, Vce 35V, CTR 600%, SO-4; ki_fp_filters: SO*4.4x3.6mm*P2.54mm*; Footprint: Package_SO:SO-4_4.4x3.6mm_P2.54mm; Supplier: http://optoelectronics.liteon.com/upload/download/DS70-2001-006/S_110_LTV-355T%2020140520.pdf
footprint SO-4_4.4x3.6mm_P2.54mm
pins: 1, 2, 3, 4

## LTV-356T
designator *  value LTV-356T
ki_keywords: NPN DC Optocoupler; ki_description: DC Optocoupler, Vce 80V, CTR 50%, SO-4; ki_fp_filters: SO*4.4x3.6mm*P2.54mm*; Footprint: Package_SO:SO-4_4.4x3.6mm_P2.54mm; Supplier: http://optoelectronics.liteon.com/upload/download/DS70-2001-010/S_110_LTV-356T%2020140520.pdf
footprint SO-4_4.4x3.6mm_P2.54mm
pins: 1, 2, 3, 4

## LTV-357T
designator *  value LTV-357T
ki_keywords: NPN DC Optocoupler; ki_description: DC Optocoupler, Vce 35V, CTR 50%, SO-4; ki_fp_filters: SO*4.4x3.6mm*P2.54mm*; Footprint: Package_SO:SO-4_4.4x3.6mm_P2.54mm; Supplier: https://www.buerklin.com/medias/sys_master/download/download/h91/ha0/8892020588574.pdf
footprint SO-4_4.4x3.6mm_P2.54mm
pins: 1, 2, 3, 4

## LTV-358T
designator *  value LTV-358T
ki_keywords: NPN DC Optocoupler; ki_description: DC Optocoupler, Vce 120V, CTR 50%, SO-4; ki_fp_filters: SO*4.4x3.6mm*P2.54mm*; Footprint: Package_SO:SO-4_4.4x3.6mm_P2.54mm; Supplier: http://optoelectronics.liteon.com/upload/download/DS70-2001-022/S_110_LTV-358T%2020140520.pdf
footprint SO-4_4.4x3.6mm_P2.54mm
pins: 1, 2, 3, 4

## LTV-814
designator *  value LTV-814
ki_keywords: NPN AC DC Optocoupler; ki_description: AC/DC Optocoupler, Vce 35V, CTR 20%, DIP4; ki_fp_filters: DIP*W7.62mm*; Footprint: Package_DIP:DIP-4_W7.62mm; Supplier: https://optoelectronics.liteon.com/upload/download/DS-70-96-0013/LTV-8X4%20series%20201509.pdf
footprint DIP-4_W7.62mm
pins: 1, 2, 3, 4

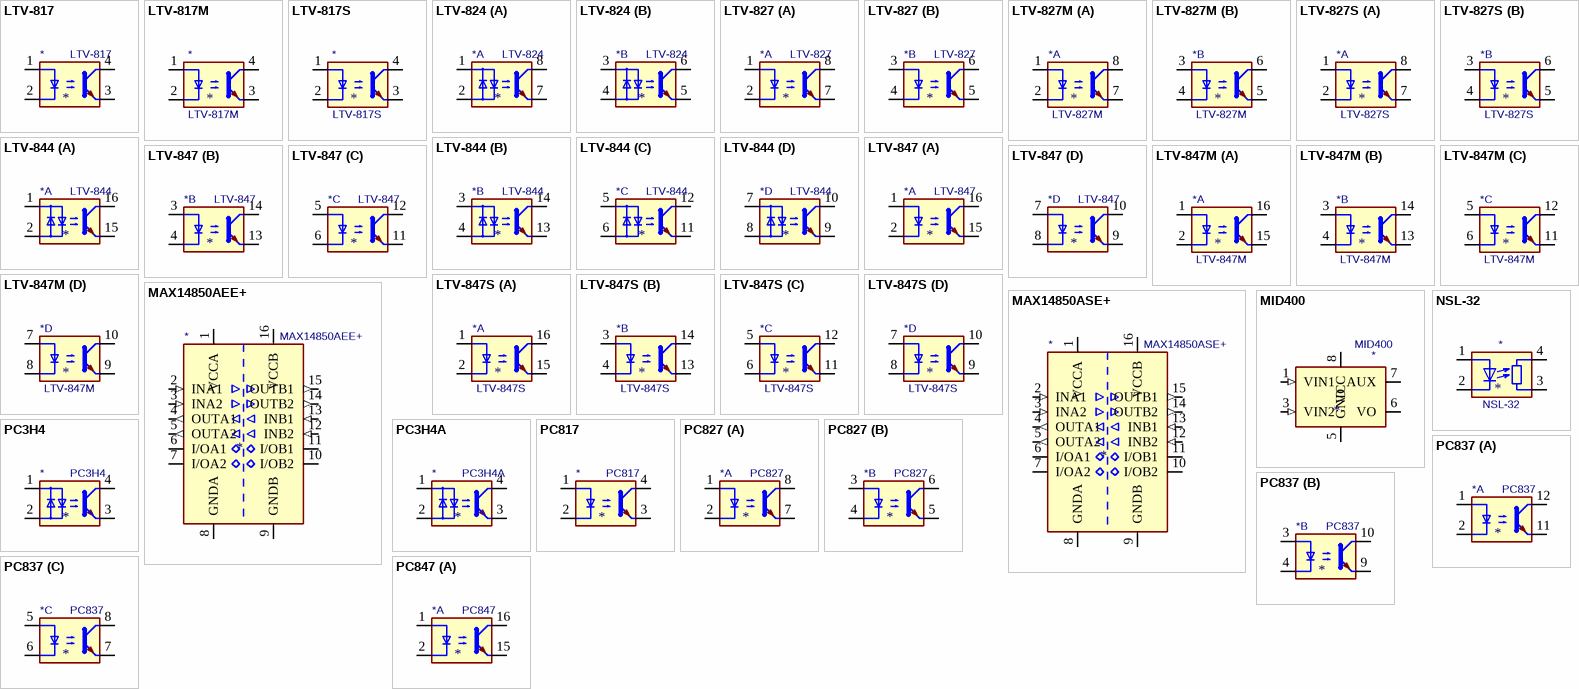
[diagram p4: symbols LTV-817 to PC847]

## LTV-817
designator *  value LTV-817
ki_keywords: NPN DC Optocoupler; ki_description: DC Optocoupler, Vce 35V, CTR 50%, DIP-4; ki_fp_filters: DIP*W7.62mm*; Footprint: Package_DIP:DIP-4_W7.62mm; Supplier: http://www.us.liteon.com/downloads/LTV-817-827-847.PDF
footprint DIP-4_W7.62mm
pins: 1, 2, 3, 4

## LTV-817M
designator *  value LTV-817M
ki_keywords: NPN DC Optocoupler; ki_description: DC Optocoupler, Vce 35V, CTR 50%, DIP-4; ki_fp_filters: DIP*W10.16mm*; Footprint: Package_DIP:DIP-4_W10.16mm; Supplier: http://www.us.liteon.com/downloads/LTV-817-827-847.PDF
footprint DIP-4_W10.16mm
pins: 1, 2, 3, 4

## LTV-817S
designator *  value LTV-817S
ki_keywords: NPN DC Optocoupler; ki_description: DC Optocoupler, Vce 35V, CTR 50%, SMDIP-4; ki_fp_filters: SMDIP*W9.53mm*; Footprint: Package_DIP:SMDIP-4_W9.53mm; Supplier: http://www.us.liteon.com/downloads/LTV-817-827-847.PDF
footprint SMDIP-4_W9.53mm
pins: 1, 2, 3, 4

## LTV-824
designator *  value LTV-824
ki_keywords: Dual NPN AC DC Optocoupler; ki_description: Dual AC/DC Optocoupler, Vce 35V, CTR 20%, DIP8; ki_fp_filters: DIP*W7.62mm*; Footprint: Package_DIP:DIP-8_W7.62mm; Supplier: http://optoelectronics.liteon.com/upload/download/DS-70-96-0013/S_110_LTV-814%20824%20844%20(M,%20S,%20S-TA,%20S-TA1,%20S-TP)%20Series.pdf
footprint DIP-8_W7.62mm
part A pins: 1, 2, 7, 8
part B pins: 3, 4, 5, 6

## LTV-827
designator *  value LTV-827
ki_keywords: NPN DC Dual Optocoupler; ki_description: Dual DC Optocoupler, Vce 35V, CTR 50%, DIP-8; ki_fp_filters: DIP*W7.62mm*; Footprint: Package_DIP:DIP-8_W7.62mm; Supplier: http://optoelectronics.liteon.com/upload/download/DS-70-96-0016/LTV-8X7%20series%20201610%20.pdf
footprint DIP-8_W7.62mm
part A pins: 1, 2, 7, 8
part B pins: 3, 4, 5, 6

## LTV-827M
designator *  value LTV-827M
ki_keywords: NPN DC Optocoupler; ki_description: DC Optocoupler, Vce 35V, CTR 50%, DIP-8; ki_fp_filters: DIP*W10.16mm*; Footprint: Package_DIP:DIP-8_W10.16mm; Supplier: http://www.us.liteon.com/downloads/LTV-817-827-847.PDF
footprint DIP-8_W10.16mm
part A pins: 1, 2, 7, 8
part B pins: 3, 4, 5, 6

## LTV-827S
designator *  value LTV-827S
ki_keywords: NPN DC Optocoupler; ki_description: DC Optocoupler, Vce 35V, CTR 50%, SMDIP-8; ki_fp_filters: SMDIP*W9.53mm*; Footprint: Package_DIP:SMDIP-8_W9.53mm; Supplier: http://www.us.liteon.com/downloads/LTV-817-827-847.PDF
footprint SMDIP-8_W9.53mm
part A pins: 1, 2, 7, 8
part B pins: 3, 4, 5, 6

## LTV-844
designator *  value LTV-844
ki_keywords: Quad NPN AC DC Optocoupler; ki_description: Quad AC/DC Optocoupler, Vce 35V, CTR 20%, DIP16; ki_fp_filters: DIP*W7.62mm*; Footprint: Package_DIP:DIP-16_W7.62mm; Supplier: http://optoelectronics.liteon.com/upload/download/DS-70-96-0013/S_110_LTV-814%20824%20844%20(M,%20S,%20S-TA,%20S-TA1,%20S-TP)%20Series.pdf
footprint DIP-16_W7.62mm
part A pins: 1, 2, 15, 16
part B pins: 3, 4, 13, 14
part C pins: 5, 6, 11, 12
part D pins: 7, 8, 9, 10

## LTV-847
designator *  value LTV-847
ki_keywords: NPN DC Quad Optocoupler; ki_description: Quad DC Optocoupler, Vce 35V, CTR 50%, DIP-16; ki_fp_filters: DIP*W7.62mm*; Footprint: Package_DIP:DIP-16_W7.62mm; Supplier: http://optoelectronics.liteon.com/upload/download/DS-70-96-0016/LTV-8X7%20series.PDF
footprint DIP-16_W7.62mm
part A pins: 1, 2, 15, 16
part B pins: 3, 4, 13, 14
part C pins: 5, 6, 11, 12
part D pins: 7, 8, 9, 10

## LTV-847M
designator *  value LTV-847M
ki_keywords: NPN DC Optocoupler; ki_description: DC Optocoupler, Vce 35V, CTR 50%, DIP-16; ki_fp_filters: DIP*W10.16mm*; Footprint: Package_DIP:DIP-16_W10.16mm; Supplier: http://www.us.liteon.com/downloads/LTV-817-827-847.PDF
footprint DIP-16_W10.16mm
part A pins: 1, 2, 15, 16
part B pins: 3, 4, 13, 14
part C pins: 5, 6, 11, 12
part D pins: 7, 8, 9, 10

## LTV-847S
designator *  value LTV-847S
ki_keywords: NPN DC Optocoupler; ki_description: DC Optocoupler, Vce 35V, CTR 50%, SMDIP-16; ki_fp_filters: SMDIP*W9.53mm*; Footprint: Package_DIP:SMDIP-16_W9.53mm; Supplier: http://www.us.liteon.com/downloads/LTV-817-827-847.PDF
footprint SMDIP-16_W9.53mm
part A pins: 1, 2, 15, 16
part B pins: 3, 4, 13, 14
part C pins: 5, 6, 11, 12
part D pins: 7, 8, 9, 10

## MAX14850AEE+
designator *  value MAX14850AEE+
ki_keywords: 6 channel digital isolator bidirectional; ki_description: Six-channel digital isolator, bidirectional, 3V3, 5V, QSOP-16; ki_fp_filters: QSOP*3.9x4.9mm*P0.635mm*; Footprint: Package_SO:QSOP-16_3.9x4.9mm_P0.635mm; Supplier: https://datasheets.maximintegrated.com/en/ds/MAX14850.pdf
footprint QSOP-16_3.9x4.9mm_P0.635mm
pins: 1 VCCA (power), 2 INA1 (in), 3 INA2 (in), 4 OUTA1 (out), 5 OUTA2 (out), 6 I/OA1 (io), 7 I/OA2 (io), 8 GNDA (power), 9 GNDB (power), 10 I/OB2 (io), 11 I/OB1 (io), 12 INB2 (in), 13 INB1 (in), 14 OUTB2 (out), 15 OUTB1 (out), 16 VCCB (power)

## MAX14850ASE+
designator *  value MAX14850ASE+
ki_keywords: 6 channel digital isolator bidirectional; ki_description: Six-channel digital isolator, bidirectional, 3V3, 5V, SOIC-16; ki_fp_filters: SOIC*3.9x9.9mm?P1.27mm*; Footprint: Package_SO:SOIC-16_3.9x9.9mm_P1.27mm; Supplier: https://datasheets.maximintegrated.com/en/ds/MAX14850.pdf
footprint SOIC-16_3.9x9.9mm_P1.27mm
pins: 1 VCCA (power), 2 INA1 (in), 3 INA2 (in), 4 OUTA1 (out), 5 OUTA2 (out), 6 I/OA1 (io), 7 I/OA2 (io), 8 GNDA (power), 9 GNDB (power), 10 I/OB2 (io), 11 I/OB1 (io), 12 INB2 (in), 13 INB1 (in), 14 OUTB2 (out), 15 OUTB1 (out), 16 VCCB (power)

## MID400
designator *  value MID400
ki_keywords: AC line monitor; ki_description: AC Line Monitor Logic-Out Device, DIP-8; ki_fp_filters: DIP*W7.62mm*; Footprint: Package_DIP:DIP-8_W7.62mm; Supplier: https://www.onsemi.com/pub/Collateral/MID400-D.pdf
footprint DIP-8_W7.62mm
pins: 1 VIN1 (in), 2 NC (in) hidden, 3 VIN2 (in), 4 NC (in) hidden, 5 GND (power), 6 VO (oc), 7 AUX, 8 VCC (power)

## NSL-32
designator *  value NSL-32
ki_keywords: optocoupler; ki_description: Optocoupler, LED Input, Photocell Output; ki_fp_filters: Luna*NSL?32*; Footprint: OptoDevice:Luna_NSL-32; Supplier: http://lunainc.com/wp-content/uploads/2016/06/NSL-32.pdf
footprint Luna_NSL-32
pins: 1 A, 2 K, 3 R, 4 R

## PC3H4
designator *  value PC3H4
ki_keywords: NPN AC DC Optocoupler; ki_description: AC/DC Optocoupler, Vce 70V, CTR 100-250%, SOP4; ki_fp_filters: SMDIP*W7.62mm*; Footprint: Package_DIP:SMDIP-4_W7.62mm; Supplier: http://www.sharpsme.com/download/pc3h4-epdf
footprint SMDIP-4_W7.62mm
pins: 1, 2, 3, 4

## PC3H4A
designator *  value PC3H4A
ki_keywords: NPN AC DC Optocoupler; ki_description: AC/DC Optocoupler, Vce 70V, CTR 100-250%, SOP4; ki_fp_filters: SMDIP*W7.62mm*; Footprint: Package_DIP:SMDIP-4_W7.62mm; Supplier: http://www.sharpsma.com/webfm_send/395
footprint SMDIP-4_W7.62mm
pins: 1, 2, 3, 4

## PC817
designator *  value PC817
ki_keywords: NPN DC Optocoupler; ki_description: DC Optocoupler, Vce 35V, CTR 50-300%, DIP-4; ki_fp_filters: DIP*W7.62mm*; Footprint: Package_DIP:DIP-4_W7.62mm; Supplier: http://www.soselectronic.cz/a_info/resource/d/pc817.pdf
footprint DIP-4_W7.62mm
pins: 1, 2, 3, 4

## PC827
designator *  value PC827
ki_keywords: NPN DC Dual Optocoupler; ki_description: Dual DC Optocoupler, Vce 35V, CTR 50%, DIP-8; ki_fp_filters: DIP*W7.62mm*; Footprint: Package_DIP:DIP-8_W7.62mm; Supplier: http://optoelectronics.liteon.com/upload/download/DS-70-96-0016/LTV-8X7%20series.PDF
footprint DIP-8_W7.62mm
part A pins: 1, 2, 7, 8
part B pins: 3, 4, 5, 6

## PC837
designator *  value PC837
ki_keywords: NPN DC Triple Optocoupler; ki_description: DC Triple Optocoupler, Vce 35V, CTR 50-300%, DIP12; ki_fp_filters: DIP*W7.62mm*; Footprint: Package_DIP:DIP-12_W7.62mm; Supplier: http://www.soselectronic.cz/a_info/resource/d/pc817.pdf
footprint DIP-12_W7.62mm
part A pins: 1, 2, 11, 12
part B pins: 3, 4, 9, 10
part C pins: 5, 6, 7, 8

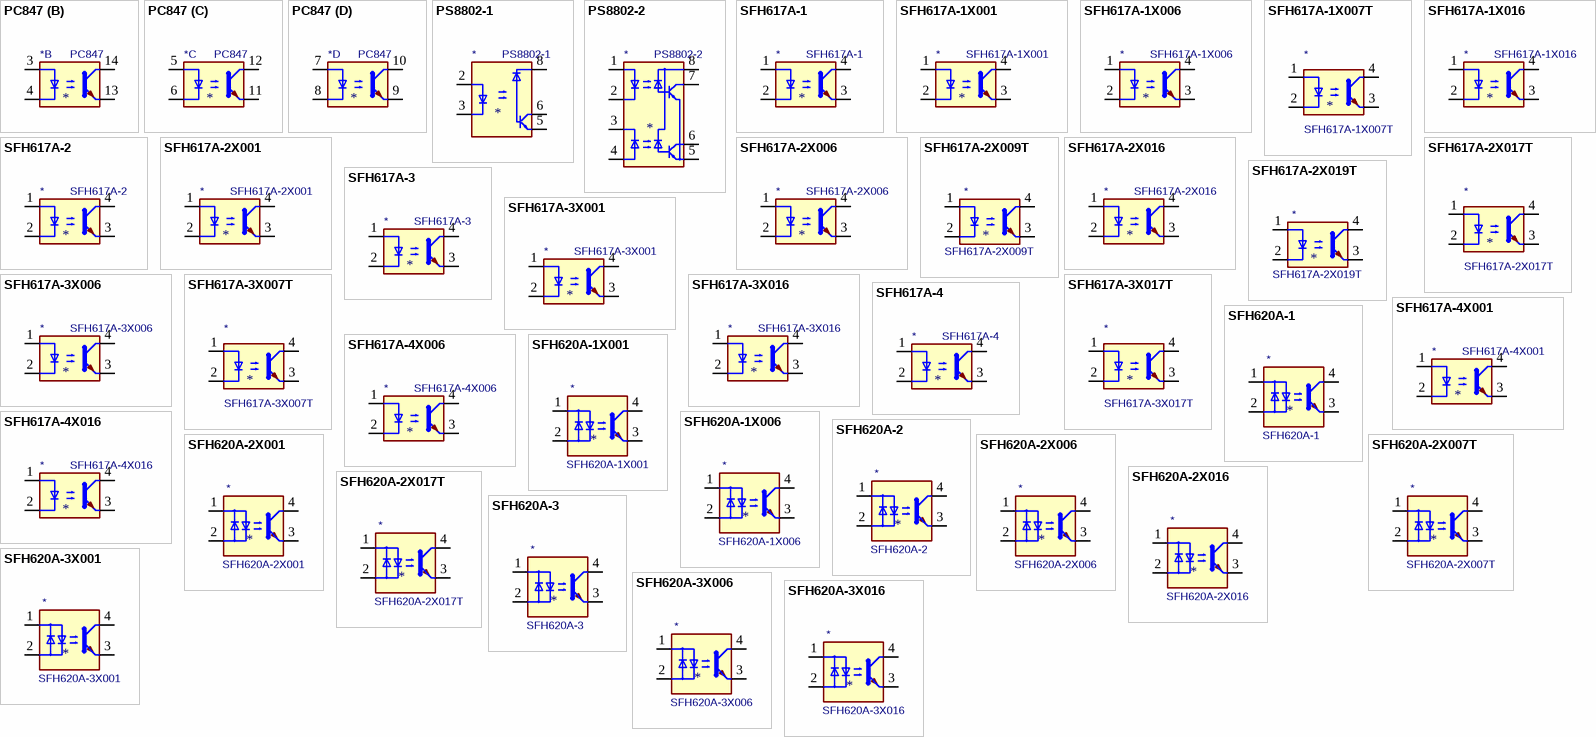
[diagram p5: symbols PC847 to SFH620A-3X016]

## PC847
designator *  value PC847
ki_keywords: NPN DC Quad Optocoupler; ki_description: DC Quad Optocoupler, Vce 35V, CTR 50-300%, DIP16; ki_fp_filters: DIP*W7.62mm*; Footprint: Package_DIP:DIP-16_W7.62mm; Supplier: http://www.soselectronic.cz/a_info/resource/d/pc817.pdf
footprint DIP-16_W7.62mm
part A pins: 1, 2, 15, 16
part B pins: 3, 4, 13, 14
part C pins: 5, 6, 11, 12
part D pins: 7, 8, 9, 10

## PS8802-1
designator *  value PS8802-1
ki_keywords: NPN DC Optocoupler Base Connected; ki_description: Single DC Optocoupler Base Connected, Vcc 35V, CTR 15%, Viso 2500V, SSOP-8; ki_fp_filters: SSOP*3.95x5.21x3.27mm?P1.27mm*; Footprint: Package_SO:SSOP-8_3.95x5.21x3.27mm_P1.27mm; Supplier: http://www.cel.com/pdf/datasheets/ps8802.pdf
footprint SSOP-8_3.95x5.21x3.27mm_P1.27mm
pins: 1 NC (in) hidden, 2 A, 3 C, 4 NC (in) hidden, 5 GND, 6 VO, 7 NC (in) hidden, 8 VCC

## PS8802-2
designator *  value PS8802-2
ki_keywords: Dual NPN DC Optocoupler Base Connected; ki_description: Dual DC Optocoupler Base Connected, Vcc 35V, CTR 15%, Viso 2500V, SSOP-8; ki_fp_filters: SSOP*3.95x5.21x3.27mm?P1.27mm*; Footprint: Package_SO:SSOP-8_3.95x5.21x3.27mm_P1.27mm; Supplier: http://www.cel.com/pdf/datasheets/ps8802.pdf
footprint SSOP-8_3.95x5.21x3.27mm_P1.27mm
pins: 1 A1, 2 C1, 3 C2, 4 A2, 5 GND, 6 VO2, 7 VO1, 8 VCC

## SFH617A-1
designator *  value SFH617A-1
ki_keywords: Optocoupler, Phototransistor Output, 5300 VRMS, VCEO 70V, CTR% 40-80; ki_description: Optocoupler, Phototransistor Output, 5300 VRMS, VCEO 70V, CTR% 40-80, -55 to +110 degree Celsius, UL, BSI, FIMKO, cUL, THT PDIP-4; ki_fp_filters: DIP*W7.62mm*; Footprint: Package_DIP:DIP-4_W7.62mm; Supplier: http://www.vishay.com/docs/83740/sfh617a.pdf
footprint DIP-4_W7.62mm
pins: 1, 2, 3, 4

## SFH617A-1X001
designator *  value SFH617A-1X001
ki_keywords: Optocoupler, Phototransistor Output, 5300 VRMS, VCEO 70V, CTR% 40-80; ki_description: Optocoupler, Phototransistor Output, 5300 VRMS, VCEO 70V, CTR% 40-80, -55 to +110 degree Celsius, VDE, UL, BSI, FIMKO, cUL, THT PDIP-4; ki_fp_filters: DIP*W7.62mm*; Footprint: Package_DIP:DIP-4_W7.62mm; Supplier: http://www.vishay.com/docs/83740/sfh617a.pdf
footprint DIP-4_W7.62mm
pins: 1, 2, 3, 4

## SFH617A-1X006
designator *  value SFH617A-1X006
ki_keywords: Optocoupler, Phototransistor Output, 5300 VRMS, VCEO 70V, CTR% 40-80; ki_description: Optocoupler, Phototransistor Output, 5300 VRMS, VCEO 70V, CTR% 40-80, -55 to +110 degree Celsius, UL, BSI, FIMKO, cUL, wide THT PDIP-4; ki_fp_filters: DIP*W10.16mm*; Footprint: Package_DIP:DIP-4_W10.16mm; Supplier: http://www.vishay.com/docs/83740/sfh617a.pdf
footprint DIP-4_W10.16mm
pins: 1, 2, 3, 4

## SFH617A-1X007T
designator *  value SFH617A-1X007T
ki_keywords: Optocoupler, Phototransistor Output, 5300 VRMS, VCEO 70V, CTR% 40-80; ki_description: Optocoupler, Phototransistor Output, 5300 VRMS, VCEO 70V, CTR% 40-80, -55 to +110 degree Celsius, UL, BSI, FIMKO, cUL, 8mm clearence SMD PDIP-4; ki_fp_filters: SMDIP*W9.53mm*Clearance8mm*; Footprint: Package_DIP:SMDIP-4_W9.53mm_Clearance8mm; Supplier: http://www.vishay.com/docs/83740/sfh617a.pdf
footprint SMDIP-4_W9.53mm_Clearance8mm
pins: 1, 2, 3, 4

## SFH617A-1X016
designator *  value SFH617A-1X016
ki_keywords: Optocoupler, Phototransistor Output, 5300 VRMS, VCEO 70V, CTR% 40-80; ki_description: Optocoupler, Phototransistor Output, 5300 VRMS, VCEO 70V, CTR% 40-80, -55 to +110 degree Celsius, VDE, UL, BSI, FIMKO, cUL, wide THT PDIP-4; ki_fp_filters: DIP*W10.16mm*; Footprint: Package_DIP:DIP-4_W10.16mm; Supplier: http://www.vishay.com/docs/83740/sfh617a.pdf
footprint DIP-4_W10.16mm
pins: 1, 2, 3, 4

## SFH617A-2
designator *  value SFH617A-2
ki_keywords: Optocoupler, Phototransistor Output, 5300 VRMS, VCEO 70V, CTR% 63-125; ki_description: Optocoupler, Phototransistor Output, 5300 VRMS, VCEO 70V, CTR% 63-125, -55 to +110 degree Celsius, UL, BSI, FIMKO, cUL, THT PDIP-4; ki_fp_filters: DIP*W7.62mm*; Footprint: Package_DIP:DIP-4_W7.62mm; Supplier: http://www.vishay.com/docs/83740/sfh617a.pdf
footprint DIP-4_W7.62mm
pins: 1, 2, 3, 4

## SFH617A-2X001
designator *  value SFH617A-2X001
ki_keywords: Optocoupler, Phototransistor Output, 5300 VRMS, VCEO 70V, CTR% 63-125; ki_description: Optocoupler, Phototransistor Output, 5300 VRMS, VCEO 70V, CTR% 63-125, -55 to +110 degree Celsius, VDE, UL, BSI, FIMKO, THT PDIP-4; ki_fp_filters: DIP*W7.62mm*; Footprint: Package_DIP:DIP-4_W7.62mm; Supplier: http://www.vishay.com/docs/83740/sfh617a.pdf
footprint DIP-4_W7.62mm
pins: 1, 2, 3, 4

## SFH617A-2X006
designator *  value SFH617A-2X006
ki_keywords: Optocoupler, Phototransistor Output, 5300 VRMS, VCEO 70V, CTR% 63-125; ki_description: Optocoupler, Phototransistor Output, 5300 VRMS, VCEO 70V, CTR% 63-125, -55 to +110 degree Celsius, UL, BSI, FIMKO, cUL, wide THT PDIP-4; ki_fp_filters: DIP*W10.16mm*; Footprint: Package_DIP:DIP-4_W10.16mm; Supplier: http://www.vishay.com/docs/83740/sfh617a.pdf
footprint DIP-4_W10.16mm
pins: 1, 2, 3, 4

## SFH617A-2X009T
designator *  value SFH617A-2X009T
ki_keywords: Optocoupler, Phototransistor Output, 5300 VRMS, VCEO 70V, CTR% 63-125; ki_description: Optocoupler, Phototransistor Output, 5300 VRMS, VCEO 70V, CTR% 63-125, -55 to +110 degree Celsius, UL, BSI, FIMKO, SMD PDIP-4; ki_fp_filters: SMDIP*W7.62mm*; Footprint: Package_DIP:SMDIP-4_W7.62mm; Supplier: http://www.vishay.com/docs/83740/sfh617a.pdf
footprint SMDIP-4_W7.62mm
pins: 1, 2, 3, 4

## SFH617A-2X016
designator *  value SFH617A-2X016
ki_keywords: Optocoupler, Phototransistor Output, 5300 VRMS, VCEO 70V, CTR% 63-125; ki_description: Optocoupler, Phototransistor Output, 5300 VRMS, VCEO 70V, CTR% 63-125, -55 to +110 degree Celsius, VDE, UL, BSI, FIMKO, wide THT PDIP-4; ki_fp_filters: DIP*W10.16mm*; Footprint: Package_DIP:DIP-4_W10.16mm; Supplier: http://www.vishay.com/docs/83740/sfh617a.pdf
footprint DIP-4_W10.16mm
pins: 1, 2, 3, 4

## SFH617A-2X017T
designator *  value SFH617A-2X017T
ki_keywords: Optocoupler, Phototransistor Output, 5300 VRMS, VCEO 70V, CTR% 63-125; ki_description: Optocoupler, Phototransistor Output, 5300 VRMS, VCEO 70V, CTR% 63-125, -55 to +110 degree Celsius, VDE, UL, BSI, FIMKO, 8mm clearence SMD PDIP-4; ki_fp_filters: SMDIP*W9.53mm*Clearance8mm*; Footprint: Package_DIP:SMDIP-4_W9.53mm_Clearance8mm; Supplier: http://www.vishay.com/docs/83740/sfh617a.pdf
footprint SMDIP-4_W9.53mm_Clearance8mm
pins: 1, 2, 3, 4

## SFH617A-2X019T
designator *  value SFH617A-2X019T
ki_keywords: Optocoupler, Phototransistor Output, 5300 VRMS, VCEO 70V, CTR% 63-125; ki_description: Optocoupler, Phototransistor Output, 5300 VRMS, VCEO 70V, CTR% 63-125, -55 to +110 degree Celsius, VDE, UL, BSI, FIMKO, SMD PDIP-4; ki_fp_filters: SMDIP*W7.62mm*; Footprint: Package_DIP:SMDIP-4_W7.62mm; Supplier: http://www.vishay.com/docs/83740/sfh617a.pdf
footprint SMDIP-4_W7.62mm
pins: 1, 2, 3, 4

## SFH617A-3
designator *  value SFH617A-3
ki_keywords: Optocoupler, Phototransistor Output, 5300 VRMS, VCEO 70V, CTR% 100-200; ki_description: Optocoupler, Phototransistor Output, 5300 VRMS, VCEO 70V, CTR% 100-200, -55 to +110 degree Celsius, UL, BSI, FIMKO, THT PDIP-4; ki_fp_filters: DIP*W7.62mm*; Footprint: Package_DIP:DIP-4_W7.62mm; Supplier: http://www.vishay.com/docs/83740/sfh617a.pdf
footprint DIP-4_W7.62mm
pins: 1, 2, 3, 4

## SFH617A-3X001
designator *  value SFH617A-3X001
ki_keywords: Optocoupler, Phototransistor Output, 5300 VRMS, VCEO 70V, CTR% 100-200; ki_description: Optocoupler, Phototransistor Output, 5300 VRMS, VCEO 70V, CTR% 100-200, -55 to +110 degree Celsius, VDE, UL, BSI, FIMKO, THT PDIP-4; ki_fp_filters: DIP*W7.62mm*; Footprint: Package_DIP:DIP-4_W7.62mm; Supplier: http://www.vishay.com/docs/83740/sfh617a.pdf
footprint DIP-4_W7.62mm
pins: 1, 2, 3, 4

## SFH617A-3X006
designator *  value SFH617A-3X006
ki_keywords: Optocoupler, Phototransistor Output, 5300 VRMS, VCEO 70V, CTR% 100-200; ki_description: Optocoupler, Phototransistor Output, 5300 VRMS, VCEO 70V, CTR% 100-200, -55 to +110 degree Celsius, VDE, UL, BSI, FIMKO, wide THT PDIP-4; ki_fp_filters: DIP*W10.16mm*; Footprint: Package_DIP:DIP-4_W10.16mm; Supplier: http://www.vishay.com/docs/83740/sfh617a.pdf
footprint DIP-4_W10.16mm
pins: 1, 2, 3, 4

## SFH617A-3X007T
designator *  value SFH617A-3X007T
ki_keywords: Optocoupler, Phototransistor Output, 5300 VRMS, VCEO 70V, CTR% 40-80; ki_description: Optocoupler, Phototransistor Output, 5300 VRMS, VCEO 70V, CTR% 40-80, -55 to +110 degree Celsius, UL, BSI, FIMKO, cUL, 8mm clearence SMD PDIP-4; ki_fp_filters: SMDIP*W9.53mm*Clearance8mm*; Footprint: Package_DIP:SMDIP-4_W9.53mm_Clearance8mm; Supplier: http://www.vishay.com/docs/83740/sfh617a.pdf
footprint SMDIP-4_W9.53mm_Clearance8mm
pins: 1, 2, 3, 4

## SFH617A-3X016
designator *  value SFH617A-3X016
ki_keywords: Optocoupler, Phototransistor Output, 5300 VRMS, VCEO 70V, CTR% 100-200; ki_description: Optocoupler, Phototransistor Output, 5300 VRMS, VCEO 70V, CTR% 100-200, -55 to +110 degree Celsius, VDE, UL, BSI, FIMKO, wide THT PDIP-4; ki_fp_filters: DIP*W10.16mm*; Footprint: Package_DIP:DIP-4_W10.16mm; Supplier: http://www.vishay.com/docs/83740/sfh617a.pdf
footprint DIP-4_W10.16mm
pins: 1, 2, 3, 4

## SFH617A-3X017T
designator *  value SFH617A-3X017T
ki_keywords: Optocoupler, Phototransistor Output, 5300 VRMS, VCEO 70V, CTR% 100-200; ki_description: Optocoupler, Phototransistor Output, 5300 VRMS, VCEO 70V, CTR% 100-200, -55 to +110 degree Celsius, VDE, UL, BSI, FIMKO, 8mm clearence SMD PDIP-4; ki_fp_filters: SMDIP*W9.53mm*Clearance8mm*; Footprint: Package_DIP:SMDIP-4_W9.53mm_Clearance8mm; Supplier: http://www.vishay.com/docs/83740/sfh617a.pdf
footprint SMDIP-4_W9.53mm_Clearance8mm
pins: 1, 2, 3, 4

## SFH617A-4
designator *  value SFH617A-4
ki_keywords: Optocoupler, Phototransistor Output, 5300 VRMS, VCEO 70V, CTR% 160-320; ki_description: Optocoupler, Phototransistor Output, 5300 VRMS, VCEO 70V, CTR% 160-320, -55 to +110 degree Celsius, UL, BSI, FIMKO, cUL, THT PDIP-4; ki_fp_filters: DIP*W7.62mm*; Footprint: Package_DIP:DIP-4_W7.62mm; Supplier: http://www.vishay.com/docs/83740/sfh617a.pdf
footprint DIP-4_W7.62mm
pins: 1, 2, 3, 4

## SFH617A-4X001
designator *  value SFH617A-4X001
ki_keywords: Optocoupler, Phototransistor Output, 5300 VRMS, VCEO 70V, CTR% 160-320; ki_description: Optocoupler, Phototransistor Output, 5300 VRMS, VCEO 70V, CTR% 160-320, -55 to +110 degree Celsius, VDE, UL, BSI, FIMKO, THT PDIP-4; ki_fp_filters: DIP*W7.62mm*; Footprint: Package_DIP:DIP-4_W7.62mm; Supplier: http://www.vishay.com/docs/83740/sfh617a.pdf
footprint DIP-4_W7.62mm
pins: 1, 2, 3, 4

## SFH617A-4X006
designator *  value SFH617A-4X006
ki_keywords: Optocoupler, Phototransistor Output, 5300 VRMS, VCEO 70V, CTR% 160-320; ki_description: Optocoupler, Phototransistor Output, 5300 VRMS, VCEO 70V, CTR% 160-320, -55 to +110 degree Celsius, UL, BSI, FIMKO, cUL, wide THT PDIP-4; ki_fp_filters: DIP*W10.16mm*; Footprint: Package_DIP:DIP-4_W10.16mm; Supplier: http://www.vishay.com/docs/83740/sfh617a.pdf
footprint DIP-4_W10.16mm
pins: 1, 2, 3, 4

## SFH617A-4X016
designator *  value SFH617A-4X016
ki_keywords: Optocoupler, Phototransistor Output, 5300 VRMS, VCEO 70V, CTR% 160-320; ki_description: Optocoupler, Phototransistor Output, 5300 VRMS, VCEO 70V, CTR% 160-320, -55 to +110 degree Celsius, VDE, UL, BSI, FIMKO, wide THT PDIP-4; ki_fp_filters: DIP*W10.16mm*; Footprint: Package_DIP:DIP-4_W10.16mm; Supplier: http://www.vishay.com/docs/83740/sfh617a.pdf
footprint DIP-4_W10.16mm
pins: 1, 2, 3, 4

## SFH620A-1
designator *  value SFH620A-1
ki_keywords: Optocoupler, Phototransistor Output, 5300 VRMS, VCEO 70V, CTR% 40-125; ki_description: Optocoupler, Phototransistor Output, 5300 VRMS, VCEO 70V, CTR% 40-125, UL, cUL, BSI, THT PDIP-4; ki_fp_filters: DIP*W7.62mm*; Footprint: Package_DIP:DIP-4_W7.62mm; Supplier: http://www.vishay.com/docs/83675/sfh620a.pdf
footprint DIP-4_W7.62mm
pins: 1, 2, 3, 4

## SFH620A-1X001
designator *  value SFH620A-1X001
ki_keywords: Optocoupler, Phototransistor Output, 5300 VRMS, VCEO 70V, CTR% 40-125; ki_description: Optocoupler, Phototransistor Output, 5300 VRMS, VCEO 70V, CTR% 40-125 VDE, UL, CUL, BSI, THT PDIP-4; ki_fp_filters: DIP*W7.62mm*; Footprint: Package_DIP:DIP-4_W7.62mm; Supplier: http://www.vishay.com/docs/83675/sfh620a.pdf
footprint DIP-4_W7.62mm
pins: 1, 2, 3, 4

## SFH620A-1X006
designator *  value SFH620A-1X006
ki_keywords: Optocoupler, Phototransistor Output, 5300 VRMS, VCEO 70V, CTR% 40-125; ki_description: Optocoupler, Phototransistor Output, 5300 VRMS, VCEO 70V, CTR% 40-125, UL, cUL, BSI, THT PDIP-4; ki_fp_filters: DIP*W10.16mm*; Footprint: Package_DIP:DIP-4_W10.16mm; Supplier: http://www.vishay.com/docs/83675/sfh620a.pdf
footprint DIP-4_W10.16mm
pins: 1, 2, 3, 4